# EAGLE library part ATWILC1000-MR110PA (library dooba)
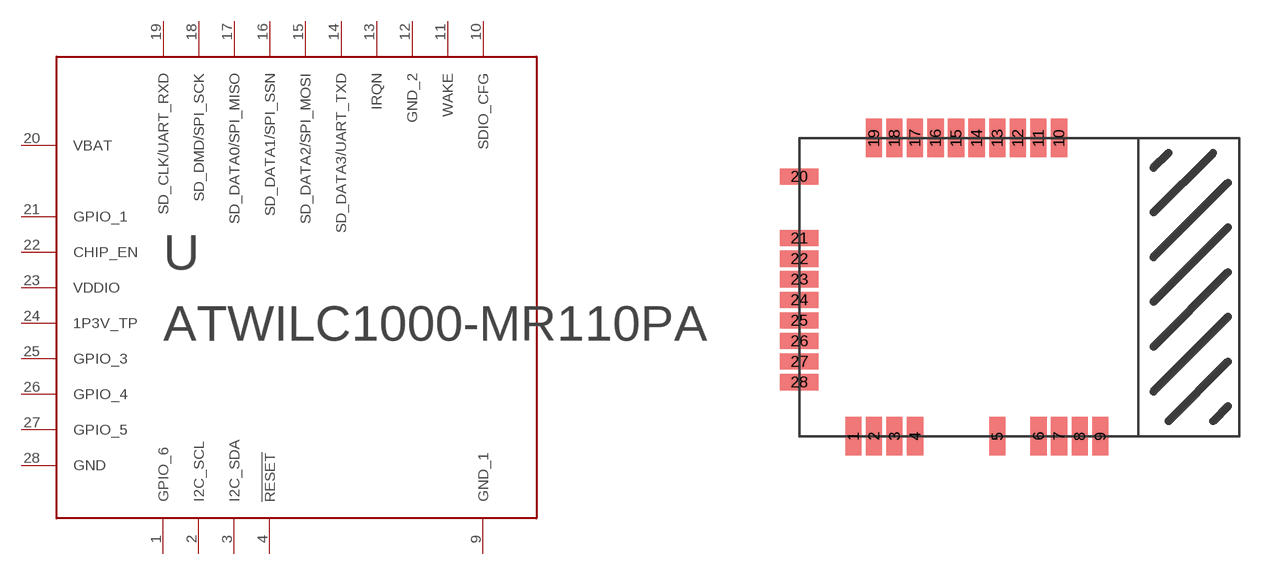
[diagram p23: symbol with the pads of ATWILC1000-MR110PA; footprint ATWILC1000-MR110PA]

Designator prefix U

## ATWILC1000-MR110PA  [ATWILC1000-MR110PA]
1  GPIO_6
2  I2C_SCL
3  I2C_SDA
4  !RESET
9  GND_1
10  SDIO_CFG
11  WAKE
12  GND_2
13  IRQN
14  SD_DATA3/UART_TXD
15  SD_DATA2/SPI_MOSI
16  SD_DATA1/SPI_SSN
17  SD_DATA0/SPI_MISO
18  SD_DMD/SPI_SCK
19  SD_CLK/UART_RXD
20  VBAT
21  GPIO_1
22  CHIP_EN
23  VDDIO
24  1P3V_TP
25  GPIO_3
26  GPIO_4
27  GPIO_5
28  GND

## Footprint ATWILC1000-MR110PA (pad centres in mm)
smd 0.8 x 1.9: 1 -8.19,-7.365; 2 -7.174,-7.365; 3 -6.158,-7.365; 4 -5.142,-7.365; 5 -1.078,-7.365; 6 0.954,-7.365; 7 1.97,-7.365; 8 2.986,-7.365; 9 4.002,-7.365; 10 1.964,7.365; 11 0.948,7.365; 12 -0.068,7.365; 13 -1.084,7.365; 14 -2.1,7.365; 15 -3.116,7.365; 16 -4.132,7.365; 17 -5.148,7.365; 18 -6.164,7.365; 19 -7.18,7.365
smd 1.9 x 0.8: 20 -10.86,5.465; 21 -10.86,2.417; 22 -10.86,1.401; 23 -10.86,0.385; 24 -10.86,-0.631; 25 -10.86,-1.647; 26 -10.86,-2.663; 27 -10.86,-3.679; 28 -10.86,-4.695